# Altium footprint library LAY_90818_C172.PcbLib: 60 footprints (part 5 of 5)
Each footprint in its own frame and in the unit in brackets; x right, y up, seen from the top. Pads: shape width x height; smd on the part's side, far side on the other; paste and mask are expansions set on the pad; w line width, h text height; cw(c..) or ccw(c..) is an arc to the next point about the centre after c.
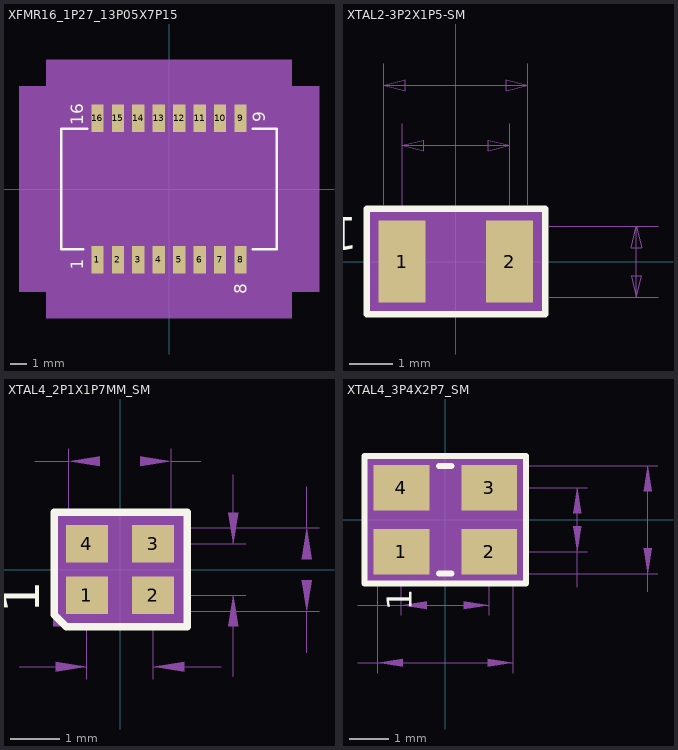
[diagram p4: the footprints below, top view; thin cyan lines are the x and y axes]

## XFMR16_1P27_13P05X7P15 [mil] "XFMR16_1P27_13P05X7P15"
pads (16):
  rect 30x67 smd: 1(-175,-173.23) 2(-125,-173.23) 3(-75,-173.23) 4(-25,-173.23) 5(25,-173.23) 6(75,-173.23) 7(125,-173.23) 8(175,-173.23) 9(175,173.23) 10(125,173.23) 11(75,173.23) 12(25,173.23) 13(-25,173.23) 14(-75,173.23) 15(-125,173.23) 16(-175,173.23)
Top Overlay:
  lines w6: -209.6,-147.75 -263.89,-147.75 -263.89,147.75 -200.29,147.75 ; 204.67,-147.75 263.89,-147.75 263.89,147.75 204.86,147.75
  text ".Designator" at 100,-274 h30
  text "1" at -210,-197 h30
  text "8" at 190,-257 h30
  text "9" at 235,163 h30
  text "16" at -210,156 h30
Top Courtyard:
  dashed: -190,206.73 190,206.73 190,140.75 256.89,140.75 256.89,-140.75 190,-140.75 190,-206.73 -190,-206.73 -190,-140.75 -256.89,-140.75 -256.89,140.75 -190,140.75
Top 3D Body:
  region: -190,206.73 190,206.73 190,140.75 256.89,140.75 256.89,-140.75 190,-140.75 190,-206.73 -190,-206.73 -190,-140.75 -256.89,-140.75 -256.89,140.75 -190,140.75
Top Component Center:
  lines w1: -10,0 10,0 ; 0,-10 0,10
Mechanical 31:
  dashed: -300,250.75 -300,316.73 300,316.73 300,250.75 366.89,250.75 366.89,-250.75 300,-250.75 300,-316.73 -300,-316.73 -300,-250.75 -366.89,-250.75 -366.89,250.75
Mechanical34:
  text "7" at 125,-177.23 h10
  text "2" at -125,-177.23 h10
  text "15" at -125,165.23 h10
  text "10" at 125,165.23 h10
  text "1" at -175,-177.23 h10
  text "3" at -75,-177.23 h10
  text "8" at 175,-177.23 h10
  text "6" at 75,-177.23 h10
  text "11" at 75,165.23 h10
  text "9" at 175,169.23 h10
  text "14" at -75,165.23 h10
  text "16" at -175,165.23 h10
  text "13" at -25,165.23 h10
  text "12" at 25,165.23 h10
  text "5" at 25,-177.23 h10
  text "4" at -25,-177.23 h10
Mechanical35:
  text "PADS R030X067S" at 30.35,-647.95 h31
  text "ALL DIMA ARE IN MM" at 13.24,-751.37 h31
  text "XFMR16_1P27_14P05X7P15" at 43.15,24.72 h31
Top Assembly:
  lines w6: -256.89,-140.75 -256.89,140.75 256.89,140.75 256.89,-140.75 -256.89,-140.75
  text "1" at -213.32,-200.71 h25
  text "8" at 216.27,-201.33 h25
  text "9" at 223.61,150.31 h25
  text "16" at -230.15,143.11 h25
3D body: height 150, standoff 0, extent -256.89,-206.73 256.89,206.73

## XTAL2-3P2X1P5-SM [mil] "XTAL2-3P2X1P5-SM"
pads (2):
  rect 43x75 smd: 1(-49.21,0.02) 2(49.21,0.02)
Top Overlay:
  lines w5.98: -81.69,-48.21 81.69,-48.21 81.69,48.25 -81.69,48.25 -81.69,11.83 -81.69,-48.21
  text ".Designator" at 45,90.02 h30
  text "1" at -89.53,40.81 h30
Top Courtyard:
  dashed: -70.71,-37.5 70.71,-37.5 70.71,37.5 -70.71,37.5
Top 3D Body:
  region: -70.71,-37.5 70.71,-37.5 70.71,37.5 -70.71,37.5
Top Component Center:
  lines w1: -10,0.02 10,0.02 ; 0,-9.98 0,10.02
Mechanical 31:
  dashed: -82.68,-47.22 82.68,-47.22 82.68,47.26 -82.68,47.26
Mechanical34:
  text "2" at 53.21,0.02 h10
  text "1" at -45.21,0.02 h10
Mechanical35:
  lines w1: -65.94,52.19 -65.94,181.12 ; -49.21,19.7 -49.21,126 ; 49.21,19.7 49.21,126 ; 65.94,52.19 65.94,181.12 ; 85.63,-32.46 185.04,-32.46 ; 85.63,32.5 185.04,32.5 ; -65.94,161.44 3.94,161.44 65.94,161.44 ; -65.94,161.44 -46.26,166.36 -46.26,156.52 -65.94,161.44 ; -49.21,106.32 0,106.32 49.21,106.32 ; -49.21,106.32 -29.53,111.24 -29.53,101.4 -49.21,106.32 ; 49.21,106.32 29.53,101.4 29.53,111.24 49.21,106.32 ; 65.94,161.44 46.26,156.52 46.26,166.36 65.94,161.44 ; 165.35,-32.46 165.35,0.02 165.35,32.5 ; 165.35,-32.46 160.43,-12.78 170.28,-12.78 165.35,-32.46 ; 165.35,32.5 170.28,12.81 160.43,12.81 165.35,32.5
  text "XTAL2-3p2x1p5-SM" at -208.66,248.05 h31
  text "PAD r043x075s" at -154.53,-119.07 h31
  text "ALL DIMS IN MM" at -157.48,-167.3 h31
  text "2.5" at -42.32,123.05 h31
  text "3.35" at -58.07,188.01 h31
  text "1.65" at 176.18,49.23 h31
Top Assembly:
  lines w5.98: -65.94,-32.46 65.94,-32.46 65.94,32.5 -65.94,32.5 -65.94,-32.46
  text "1" at -87.44,-7.85 h25
3D body: height 150, standoff 0, extent -70.71,-37.5 70.71,37.5

## XTAL4_2P1X1P7MM_SM [mil] "XTAL4_2P1X1P7MM_SM"
pads (4):
  rect 34x30 smd: 1(-26.57,-20.67) 2(26.57,-20.67) 3(26.57,20.67) 4(-26.57,20.67)
Top Overlay:
  lines w6: -53,-36.16 -43.16,-46 54,-46 54,46 -44,46 -53,46 -53,-36.16
  text ".Designator" at 15,-120 h30
  text "1" at -65,-35 h30
Top Courtyard:
  dashed: -43.58,-35.67 43.58,-35.67 43.58,35.67 -43.58,35.67
Top 3D Body:
  region: -43.58,-35.67 43.58,-35.67 43.58,35.67 -43.58,35.67
Top Component Center:
  lines w1: -10,0 10,0 ; 0,-10 0,10
Mechanical 31:
  dashed: -53.58,-45.67 53.58,-45.67 53.58,45.67 -53.58,45.67
Mechanical34:
  text "3" at 26.57,16.67 h10
  text "1" at -26.57,-24.67 h10
  text "2" at 26.57,-24.67 h10
  text "4" at -26.57,16.67 h10
Mechanical35:
  dashed: 51.58,-74 26.57,-78 51.58,-82
  dashed: -51.58,-82 -26.57,-78 -51.58,-74
  dashed: 87,45.67 91,20.67 95,45.67
  dashed: 95,-45.67 91,-20.67 87,-45.67
  dashed: 16.34,83 41.34,87 16.34,91
  dashed: -16.34,91 -41.34,87 -16.34,83
  dashed: 154,8.46 150,33.47 146,8.46
  dashed: 146,-8.46 150,-33.47 154,-8.46
  lines w1: -81.25,-78 -26.57,-78 ; -68.75,87 -41.34,87 ; -41.34,43.47 -41.34,97 ; -26.57,-88 -26.57,-30.67 ; 26.57,-88 26.57,-30.67 ; 26.57,-78 81.25,-78 ; 36.58,-20.67 101,-20.67 ; 36.58,20.67 101,20.67 ; 41.34,43.47 41.34,97 ; 41.34,87 64.75,87 ; 51.34,-33.47 160,-33.47 ; 51.34,33.47 160,33.47 ; 91,-86.25 91,-20.67 ; 91,20.67 91,76.25 ; 150,-66.75 150,-33.47 ; 150,33.47 150,66.75
  text "XTAL4_2P1X1P7MM_SM" at -226.41,207.35 h31
  text "ALL DIMS IN MM" at -196,-234.34 h31
  text "PADS R034X030S" at -195,-183.34 h31
  text "1.35" at -49,-125.33 h31
  text "1.05" at 104.33,77 h31
  text "2.1" at -38.5,98.67 h31
  text "1.7" at 162.34,77.5 h31
Top Assembly:
  lines w6: -41.34,-23.62 -31.5,-33.47 41.34,-33.47 41.34,33.47 -41.34,33.47 -41.34,-23.62
  text "1" at -79.35,-41.63 h25
3D body: height 150, standoff 0, extent -43.58,-35.67 43.58,35.67

## XTAL4_3P4X2P7_SM [mil] "XTAL4_3P4X2P7_SM"
pads (4):
  rect 55x45 smd: 1(-43.31,-31.5) 2(43.31,-31.5) 3(43.31,31.5) 4(-43.31,31.5)
Top Overlay:
  lines w6: -6.04,-53.15 6.03,-53.15 ; -6.03,53.15 6.04,53.15 ; -79.83,-62.91 79.83,-62.91 79.83,62.91 -79.83,62.91 -79.83,-62.91
  text "1" at -33.1,-89.7 h25
Top Courtyard:
  dashed: -70.81,54 -70.81,-54 70.81,-54 70.81,54
Top 3D Body:
  region: -70.81,-54 70.81,-54 70.81,54 -70.81,54
Top Component Center:
  lines w1: -10,0 10,0 ; 0,-10 0,10
Mechanical 31:
  dashed: -80.81,-64 80.81,-64 80.81,64 -80.81,64
Mechanical34:
  text "1" at -43.31,-35.5 h10
  text "3" at 43.31,27.5 h10
  text "2" at 43.31,-35.5 h10
  text "4" at -43.31,27.5 h10
Mechanical35:
  dashed: 18.31,-88.31 43.31,-84.31 18.31,-80.31
  dashed: -18.31,-80.31 -43.31,-84.31 -18.31,-88.31
  dashed: 41.93,-145.39 66.93,-141.4 41.93,-137.4
  dashed: -41.93,-137.4 -66.93,-141.4 -41.93,-145.39
  dashed: 134.33,6.5 130.34,31.5 126.34,6.5
  dashed: 126.34,-6.5 130.34,-31.5 134.33,-6.5
  dashed: 204.07,28.15 200.07,53.15 196.08,28.15
  dashed: 196.08,-28.15 200.07,-53.15 204.07,-28.15
  lines w1: -86.22,-141.4 -66.93,-141.4 66.93,-141.4 ; -86.22,-84.31 -43.31,-84.31 43.31,-84.31 ; -66.93,-151.4 -66.93,-63.15 ; -43.31,-94.31 -43.31,-41.5 ; 43.31,-94.31 43.31,-41.5 ; 53.31,-31.5 140.34,-31.5 ; 53.31,31.5 140.34,31.5 ; 66.93,-151.4 66.93,-63.15 ; 76.93,-53.15 210.07,-53.15 ; 76.93,53.15 210.07,53.15 ; 130.34,-66.87 130.34,-31.5 130.34,31.5 ; 200.07,-70.97 200.07,-53.15 200.07,53.15
  text "XTAL4_3P4X2P7_SM" at -178.66,167.03 h31
  text "ALL DIMS IN MM" at -190.28,-292.12 h31
  text "PADS R055X045S" at -188.1,-240.65 h31
  text "2.2" at -193.47,-99.81 h31
  text "3.4" at -193.47,-156.9 h31
  text "1.6" at 145.84,-172.51 h31
  text "2.7" at 215.57,-170.34 h31
Top Assembly:
  lines w6: -66.93,-53.15 66.93,-53.15 66.93,53.15 -66.93,53.15 -66.93,-53.15
  text "1" at -108.12,-46.16 h25
3D body: height 150, standoff 0, extent -70.81,-54 70.81,54